# Altium schematic symbol library REG LIN POS ADJ.Schlib: 1 symbol
Pins are listed as number, name and electrical type; pins without a type are passive.

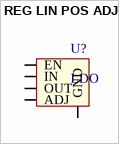
[diagram p0: symbol REG LIN POS ADJ]

## REG LIN POS ADJ
designator U?, comment LDO
Linear Voltage Regulator IC  1 Output  500mA 8-SOIC; MF: Texas Instruments; MP: TL5209DR; Digikey: 296-21569-1-ND; Digikey Link: https://www.digikey.ca/product-detail/en/texas-instruments/TL5209DR/296-21569-1-ND/1427137; Price: 1.548 CAD; Rating: 500mA; Package: 8 SOIC; Supplier 1: Digi-Key; Supplier Part Number 1: 296-21569-1-ND
footprint REG LIN POS ADJ 500MA 8SOIC (Linear Voltage Regulator IC  1 Output  500mA 8-SOIC)
pins: ADJ, EN, GND, IN, OUT